# Altium footprint library AdamsParts.PcbLib: 238 footprints (part 15 of 15)
Each footprint in its own frame and in the unit in brackets; x right, y up, seen from the top. Pads: shape width x height; smd on the part's side, far side on the other; paste and mask are expansions set on the pad; w line width, h text height; cw(c..) or ccw(c..) is an arc to the next point about the centre after c.
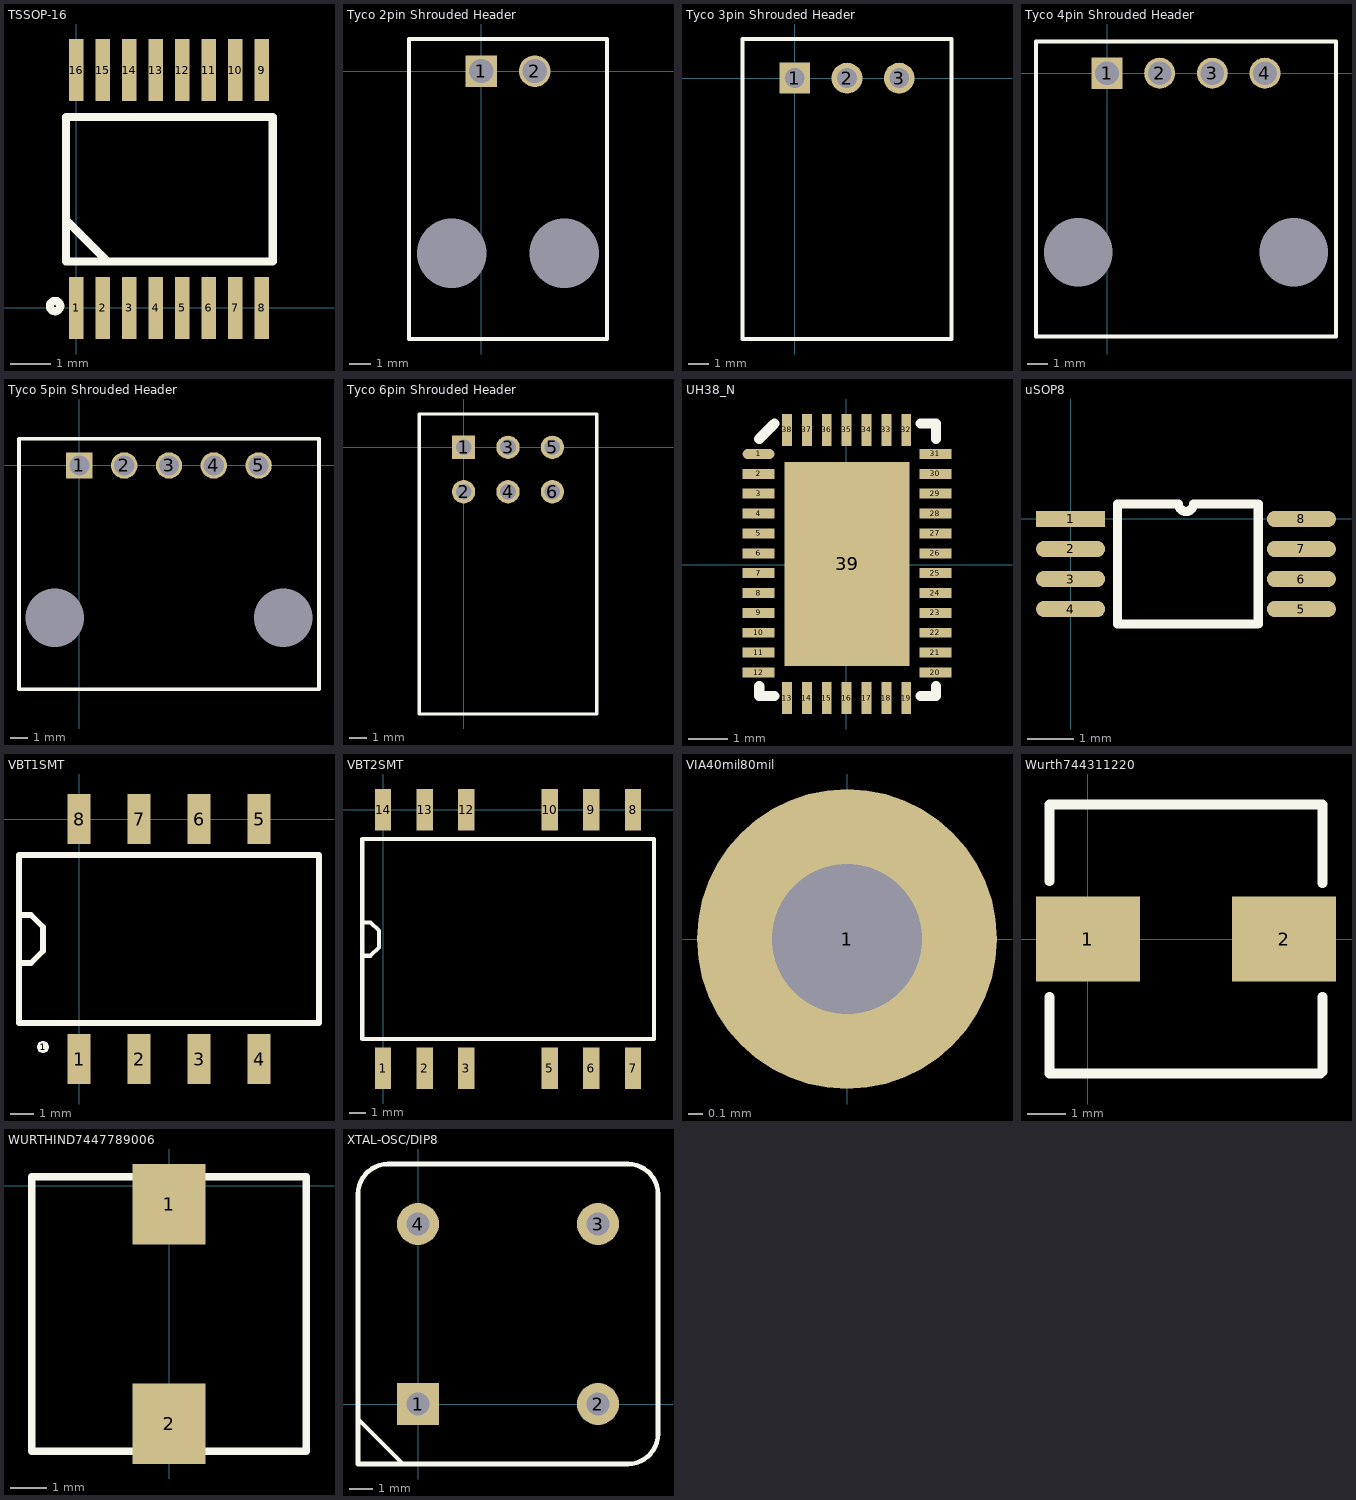
[diagram p14: the footprints below, top view; thin cyan lines are the x and y axes]

## TSSOP-16 [mil]
pads (16):
  rect 14x60 smd: 1(0,0) 2(25.59,0) 3(51.18,0) 4(76.77,0) 5(102.36,0) 6(127.95,0) 7(153.54,0) 8(179.13,0) 9(179.13,230.31) 10(153.54,230.31) 11(127.95,230.31) 12(102.36,230.31) 13(76.77,230.31) 14(51.18,230.31) 15(25.59,230.31) 16(0,230.31)
Top Overlay:
  circle w7.87: c-20.67,1.89 r5
  lines w7.87: -10,85 30,45 ; -10,45 -10,185 190,185 190,45 -10,45

## Tyco 2pin Shrouded Header [mil]
pads (4):
  rect 59.06x59.06 hole 45: 1(0,0)
  round 59.06 hole 45: 2(100,0)
  round 100 hole 130: ""(-55,-340) ""(155,-340)
Top Overlay:
  lines w7.87: -135,-500 235,-500 235,60 -135,60 -135,-500

## Tyco 3pin Shrouded Header [mm]
pads (3):
  rect 1.5x1.5 hole 0.965: 1(0,0)
  round 1.5 hole 0.965: 2(2.54,0) 3(5.08,0)
Top Overlay:
  lines w0.2: -2.54,-12.7 7.62,-12.7 7.62,1.905 -2.54,1.905 -2.54,-12.7

## Tyco 4pin Shrouded Header [mil]
pads (6):
  rect 59.06x59.06 hole 45: 1(0,0)
  round 59.06 hole 45: 2(100,0) 3(200,0) 4(300,0)
  round 100 hole 130: ""(-55,-340) ""(355,-340)
Top Overlay:
  lines w7.87: -135,-500 435,-500 435,60 -135,60 -135,-500

## Tyco 5pin Shrouded Header [mil]
pads (7):
  rect 59.06x59.06 hole 45: 1(0,0)
  round 59.06 hole 45: 2(100,0) 3(200,0) 4(300,0) 5(400,0)
  round 100 hole 130: ""(-55,-340) ""(455,-340)
Top Overlay:
  lines w7.87: -135,-500 535,-500 535,60 -135,60 -135,-500

## Tyco 6pin Shrouded Header [mil]
pads (6):
  rect 52.52x52.52 hole 35: 1(0,0)
  round 52.52 hole 35: 2(0,-100) 3(100,0) 4(100,-100) 5(200,0) 6(200,-100)
Top Overlay:
  lines w7.87: -100,-600 -100,75 300,75 300,-600 -100,-600

## UH38_N [mm]
pads (39):
  oval 0.8x0.25 smd: 1(-2.2,2.794)
  rect 0.8x0.25 smd: 2(-2.2,2.294) 3(-2.2,1.794) 4(-2.2,1.294) 5(-2.2,0.794) 6(-2.2,0.294) 7(-2.2,-0.206) 8(-2.2,-0.706) 9(-2.2,-1.206) 10(-2.2,-1.706) 11(-2.2,-2.206) 12(-2.2,-2.706) 20(2.25,-2.706) 21(2.25,-2.206) 22(2.25,-1.706) 23(2.25,-1.206) 24(2.25,-0.706) 25(2.25,-0.206) 26(2.25,0.294) 27(2.25,0.794) 28(2.25,1.294) 29(2.25,1.794) 30(2.25,2.294) 31(2.25,2.794)
  rect 0.25x0.8 smd: 13(-1.484,-3.35) 14(-0.984,-3.35) 15(-0.484,-3.35) 16(0.016,-3.35) 17(0.516,-3.35) 18(1.016,-3.35) 19(1.516,-3.35) 32(1.516,3.4) 33(1.016,3.4) 34(0.516,3.4) 35(0.016,3.4) 36(-0.484,3.4) 37(-0.984,3.4) 38(-1.484,3.4)
  rect 3.15x5.131 smd: 39(0.025,0.025)
Top Overlay:
  lines w0.254: -2.184,-3.048 -2.184,-3.302 -1.803,-3.302 ; -2.184,3.175 -1.803,3.556 ; 1.88,-3.302 2.261,-3.302 2.261,-3.048 ; 1.88,3.556 2.261,3.556 2.261,3.175

## uSOP8 [mm]
pads (8):
  rect 1.5x0.35 smd: 1(0,0)
  oval 1.5x0.35 smd: 2(0,-0.65) 3(0,-1.3) 4(0,-1.95) 5(5,-1.95) 6(5,-1.3) 7(5,-0.65) 8(5,0)
Top Overlay:
  lines w0.2: 1.016,-2.275 1.016,0.325 2.338,0.325 ccw(c2.5,0.325) 2.662,0.325 4.064,0.325 4.064,-2.275 1.016,-2.275

## VBT1SMT [mil] "DCDC Converter VBT1SMT series (CUI inc)"
height 246.06
pads (9):
  round 20 on Top Overlay: 1(-60,-380)
  rect 39x83 smd: 1(0,-400) 2(100,-400) 3(200,-400) 4(300,-400) 5(300,0) 6(200,0) 7(100,0) 8(0,0)
Top Overlay:
  lines w10: -100,-240 -80,-240 -60,-220 -60,-180 -80,-160 -100,-160 ; -100,-340 400,-340 400,-60 -100,-60 -100,-340

## VBT2SMT [mil] "DCDC Converter VBT2SMT series (CUI inc)"
height 246.06
pads (12):
  rect 39x100 smd: 1(0,-620) 2(100,-620) 3(200,-620) 5(400,-620) 6(500,-620) 7(600,-620) 8(600,0) 9(500,0) 10(400,0) 12(200,0) 13(100,0) 14(0,0)
Top Overlay:
  lines w10: -50,-350 -30,-350 -10,-330 -10,-290 -30,-270 -50,-270 ; -50,-550 -50,-70 650,-70 650,-550 -50,-550

## VIA40mil80mil [mil] "Via with 40mil hole and 80mil diameter"
pads (1):
  round 80 hole 40: 1(0,0)

## Wurth744311220 [mm] "Inductor"
height 4
pads (2):
  rect 2.7x2.2 smd: 1(0,0) 2(5.1,0)
Top Overlay:
  lines w0.254: -1,-1.5 -1,-3.5 6.05,-3.5 6.1,-3.45 6.1,-1.5 ; -1,1.5 -1,3.5 6.05,3.5 ; 6.1,1.45 6.1,3.5

## WURTHIND7447789006 [mm] "Wurth 68uH Inductor"
height 3.5
pads (2):
  rect 2x2.2 smd: 1(0,-0.5) 2(0,-6.5)
Top Overlay:
  lines w0.2: -3.75,-7.25 3.75,-7.25 3.75,0.25 -3.75,0.25 -3.75,-7.25

## XTAL-OSC/DIP8 [mil]
pads (4):
  rect 70x70 hole 38: 1(0,0)
  round 70 hole 38: 2(300,0) 3(300,300) 4(0,300)
Top Overlay:
  lines w7.87: -100,-25 -25,-100 ; -100,-100 350,-100 ccw(c350,-50) 400,-50 400,350 ccw(c350,350) 350,400 -50,400 ccw(c-50,350) -100,350 -100,-100